# EAGLE library part M74HCT74 (library RoboJackets-ICs)
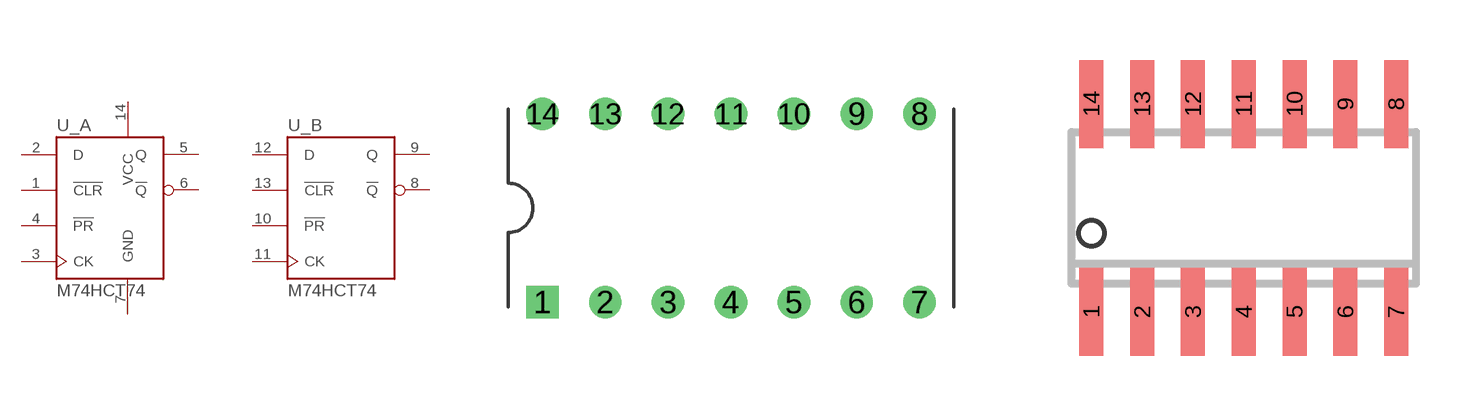
[diagram p15: symbol with the pads of DIL14; footprints DIL14, SOIC-14]

Designator prefix U; gates _A=DFF _B=DFF _POWER=POWER

## M74HCT74B1  [DIL14]
1  _A:!CLR
2  _A:D
3  _A:CK
4  _A:!PR
5  _A:Q
6  _A:!Q
7  _POWER:GND
8  _B:!Q
9  _B:Q
10  _B:!PR
11  _B:CK
12  _B:D
13  _B:!CLR
14  _POWER:VCC

## M74HCT74M1  [SOIC-14]
Pads as for DIL14

## Footprint DIL14 (pad centres in mm)
drill 0.8 square: 1 -7.62,-3.81
drill 0.8: 2 -5.08,-3.81; 3 -2.54,-3.81; 4 0,-3.81; 5 2.54,-3.81; 6 5.08,-3.81; 7 7.62,-3.81; 8 7.62,3.81; 9 5.08,3.81; 10 2.54,3.81; 11 0,3.81; 12 -2.54,3.81; 13 -5.08,3.81; 14 -7.62,3.81

## Footprint SOIC-14 (pad centres in mm)
smd 0.6 x 2.2: 1 -3.81,-2.6; 2 -2.54,-2.6; 3 -1.27,-2.6; 4 0,-2.6; 5 1.27,-2.6; 6 2.54,-2.6; 7 3.81,-2.6; 8 3.81,2.6; 9 2.54,2.6; 10 1.27,2.6; 11 0,2.6; 12 -1.27,2.6; 13 -2.54,2.6; 14 -3.81,2.6